# Altium integrated library WE-PD SMD Shielded Power Inductor.IntLib: 278 symbols (part 3 of 3)
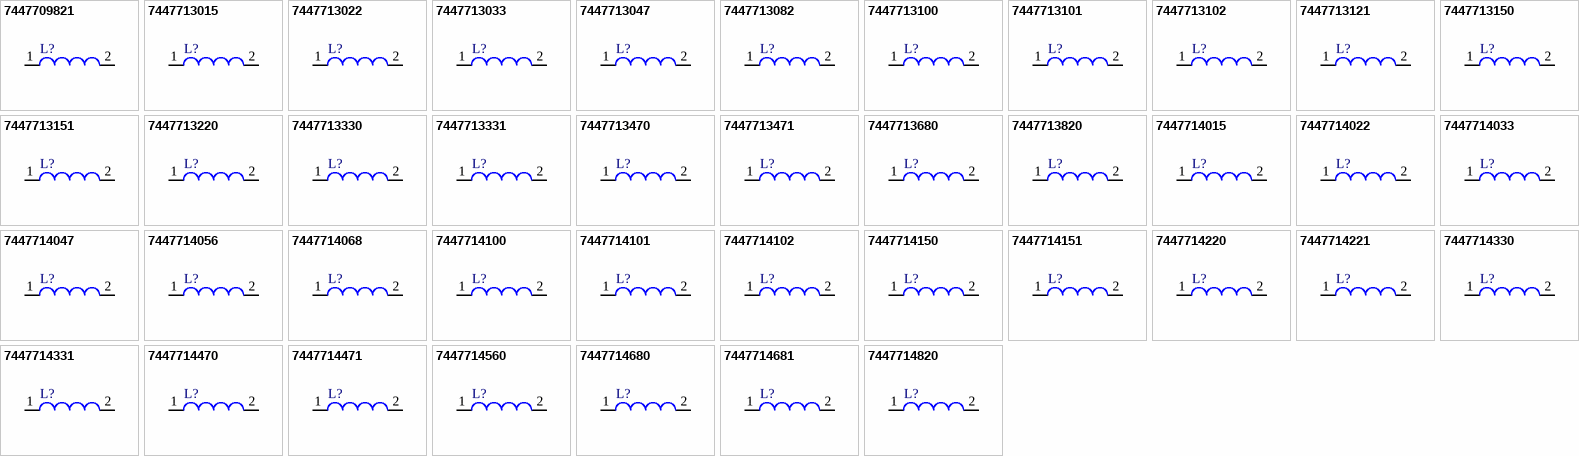
[diagram p8: symbols 7447709821 to 7447714820]

## 7447714560
designator L?
SMD-Shielded Power Inductor WE-PD, L=56.0 µH; PartNumber: 7447714560; Inductance: 56.0 µH; PackageReference: WE-PD 1050; ComponentLink1Description: Manufacturer URL; ComponentLink1URL: http://www.we-online.com; ComponentLink2Description: Datasheet; ComponentLink2URL: http://www.we-online.de/katalog/media/pdf/7447714560.pdf
footprint WE-PD 1050 (SMD Inductor, 2-Leads, Body 10,0x10,0mm)
pins: 1, 2

## 7447714680
designator L?
SMD-Shielded Power Inductor WE-PD, L=68.0 µH; PartNumber: 7447714680; Inductance: 68.0 µH; PackageReference: WE-PD 1050; ComponentLink1Description: Manufacturer URL; ComponentLink1URL: http://www.we-online.com; ComponentLink2Description: Datasheet; ComponentLink2URL: http://www.we-online.de/katalog/media/pdf/7447714680.pdf
footprint WE-PD 1050 (SMD Inductor, 2-Leads, Body 10,0x10,0mm)
pins: 1, 2

## 7447714681
designator L?
SMD-Shielded Power Inductor WE-PD, L=680 µH; PartNumber: 7447714681; Inductance: 680 µH; PackageReference: WE-PD 1050; ComponentLink1Description: Manufacturer URL; ComponentLink1URL: http://www.we-online.com; ComponentLink2Description: Datasheet; ComponentLink2URL: http://www.we-online.de/katalog/media/pdf/7447714681.pdf
footprint WE-PD 1050 (SMD Inductor, 2-Leads, Body 10,0x10,0mm)
pins: 1, 2

## 7447714820
designator L?
SMD-Shielded Power Inductor WE-PD, L=82.0 µH; PartNumber: 7447714820; Inductance: 82.0 µH; PackageReference: WE-PD 1050; ComponentLink1Description: Manufacturer URL; ComponentLink1URL: http://www.we-online.com; ComponentLink2Description: Datasheet; ComponentLink2URL: http://www.we-online.de/katalog/media/pdf/7447714820.pdf
footprint WE-PD 1050 (SMD Inductor, 2-Leads, Body 10,0x10,0mm)
pins: 1, 2

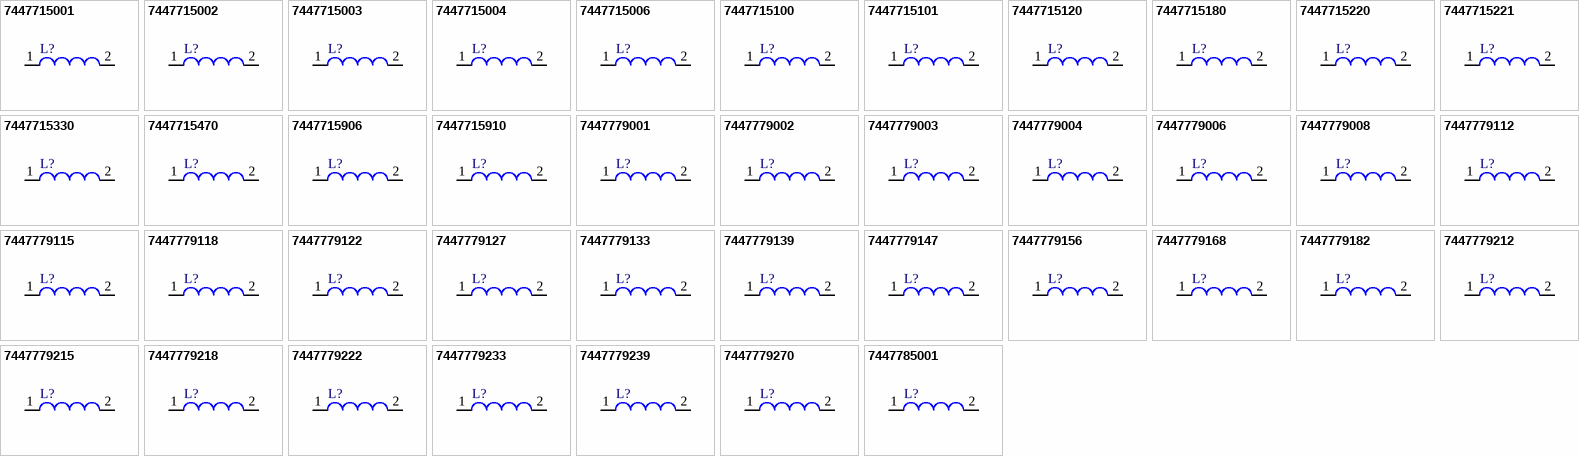
[diagram p5: symbols 7447715001 to 7447785001]

## 7447715001
designator L?
SMD-Shielded Power Inductor WE-PD, L = 1.80 µH; PartNumber: 7447715001; Inductance: 1.80 µH; DatasheetVersion: ver 1, Nov-2008; PackageReference: WE-PD-LS; PackageDescription: SMD Inductor, 2-Leads, Body 12.0 x 12.0 mm; ComponentLink1Description: Manufacturer URL; ComponentLink1URL: http://www.we-online.com; ComponentLink2Description: Datasheet; ComponentLink2URL: http://www.we-online.de/katalog/media/pdf/7447715001.pdf
footprint WE-PD-LS (SMD Inductor, 2-Leads, Body 12.0x12.0x4.5 mm)
pins: 1, 2

## 7447715002
designator L?
SMD-Shielded Power Inductor WE-PD, L = 2.50 µH; PartNumber: 7447715002; Inductance: 2.50 µH; DatasheetVersion: ver 1, Nov-2008; PackageReference: WE-PD-LS; PackageDescription: SMD Inductor, 2-Leads, Body 12.0 x 12.0 mm; ComponentLink1Description: Manufacturer URL; ComponentLink1URL: http://www.we-online.com; ComponentLink2Description: Datasheet; ComponentLink2URL: http://www.we-online.de/katalog/media/pdf/7447715002.pdf
footprint WE-PD-LS (SMD Inductor, 2-Leads, Body 12.0x12.0x4.5 mm)
pins: 1, 2

## 7447715003
designator L?
SMD-Shielded Power Inductor WE-PD, L = 3.30 µH; PartNumber: 7447715003; Inductance: 3.30 µH; DatasheetVersion: ver 1, Nov-2008; PackageReference: WE-PD-LS; PackageDescription: SMD Inductor, 2-Leads, Body 12.0 x 12.0 mm; ComponentLink1Description: Manufacturer URL; ComponentLink1URL: http://www.we-online.com; ComponentLink2Description: Datasheet; ComponentLink2URL: http://www.we-online.de/katalog/media/pdf/7447715003.pdf
footprint WE-PD-LS (SMD Inductor, 2-Leads, Body 12.0x12.0x4.5 mm)
pins: 1, 2

## 7447715004
designator L?
SMD-Shielded Power Inductor WE-PD, L = 4.70 µH; PartNumber: 7447715004; Inductance: 4.70 µH; DatasheetVersion: ver 1, Nov-2008; PackageReference: WE-PD-LS; PackageDescription: SMD Inductor, 2-Leads, Body 12.0 x 12.0 mm; ComponentLink1Description: Manufacturer URL; ComponentLink1URL: http://www.we-online.com; ComponentLink2Description: Datasheet; ComponentLink2URL: http://www.we-online.de/katalog/media/pdf/7447715004.pdf
footprint WE-PD-LS (SMD Inductor, 2-Leads, Body 12.0x12.0x4.5 mm)
pins: 1, 2

## 7447715006
designator L?
SMD-Shielded Power Inductor WE-PD, L = 6.80 µH; PartNumber: 7447715006; Inductance: 6.80 µH; DatasheetVersion: ver 1, Nov-2008; PackageReference: WE-PD-LS; PackageDescription: SMD Inductor, 2-Leads, Body 12.0 x 12.0 mm; ComponentLink1Description: Manufacturer URL; ComponentLink1URL: http://www.we-online.com; ComponentLink2Description: Datasheet; ComponentLink2URL: http://www.we-online.de/katalog/media/pdf/7447715006.pdf
footprint WE-PD-LS (SMD Inductor, 2-Leads, Body 12.0x12.0x4.5 mm)
pins: 1, 2

## 7447715100
designator L?
SMD-Shielded Power Inductor WE-PD, L = 10.0 µH; PartNumber: 7447715100; Inductance: 10.0 µH; DatasheetVersion: ver 1, Nov-2008; PackageReference: WE-PD-LS; PackageDescription: SMD Inductor, 2-Leads, Body 12.0 x 12.0 mm; ComponentLink1Description: Manufacturer URL; ComponentLink1URL: http://www.we-online.com; ComponentLink2Description: Datasheet; ComponentLink2URL: http://www.we-online.de/katalog/media/pdf/7447715100.pdf
footprint WE-PD-LS (SMD Inductor, 2-Leads, Body 12.0x12.0x4.5 mm)
pins: 1, 2

## 7447715101
designator L?
SMD-Shielded Power Inductor WE-PD, L = 100 µH; PartNumber: 7447715101; Inductance: 100 µH; DatasheetVersion: ver 1, Nov-2008; PackageReference: WE-PD-LS; PackageDescription: SMD Inductor, 2-Leads, Body 12.0 x 12.0 mm; ComponentLink1Description: Manufacturer URL; ComponentLink1URL: http://www.we-online.com; ComponentLink2Description: Datasheet; ComponentLink2URL: http://www.we-online.de/katalog/media/pdf/7447715101.pdf
footprint WE-PD-LS (SMD Inductor, 2-Leads, Body 12.0x12.0x4.5 mm)
pins: 1, 2

## 7447715120
designator L?
SMD-Shielded Power Inductor WE-PD, L = 12.0 µH; PartNumber: 7447715120; Inductance: 12.0 µH; DatasheetVersion: ver 1, Nov-2008; PackageReference: WE-PD-LS; PackageDescription: SMD Inductor, 2-Leads, Body 12.0 x 12.0 mm; ComponentLink1Description: Manufacturer URL; ComponentLink1URL: http://www.we-online.com; ComponentLink2Description: Datasheet; ComponentLink2URL: http://www.we-online.de/katalog/media/pdf/7447715120.pdf
footprint WE-PD-LS (SMD Inductor, 2-Leads, Body 12.0x12.0x4.5 mm)
pins: 1, 2

## 7447715180
designator L?
SMD-Shielded Power Inductor WE-PD, L = 18.0 µH; PartNumber: 7447715180; Inductance: 18.0 µH; DatasheetVersion: ver 1, Nov-2008; PackageReference: WE-PD-LS; PackageDescription: SMD Inductor, 2-Leads, Body 12.0 x 12.0 mm; ComponentLink1Description: Manufacturer URL; ComponentLink1URL: http://www.we-online.com; ComponentLink2Description: Datasheet; ComponentLink2URL: http://www.we-online.de/katalog/media/pdf/7447715180.pdf
footprint WE-PD-LS (SMD Inductor, 2-Leads, Body 12.0x12.0x4.5 mm)
pins: 1, 2

## 7447715220
designator L?
SMD-Shielded Power Inductor WE-PD, L = 22.0 µH; PartNumber: 7447715220; Inductance: 22.0 µH; DatasheetVersion: ver 1, Nov-2008; PackageReference: WE-PD-LS; PackageDescription: SMD Inductor, 2-Leads, Body 12.0 x 12.0 mm; ComponentLink1Description: Manufacturer URL; ComponentLink1URL: http://www.we-online.com; ComponentLink2Description: Datasheet; ComponentLink2URL: http://www.we-online.de/katalog/media/pdf/7447715220.pdf
footprint WE-PD-LS (SMD Inductor, 2-Leads, Body 12.0x12.0x4.5 mm)
pins: 1, 2

## 7447715221
designator L?
SMD-Shielded Power Inductor WE-PD, L = 220 µH; PartNumber: 7447715221; Inductance: 220 µH; DatasheetVersion: ver 1, Nov-2008; PackageReference: WE-PD-LS; PackageDescription: SMD Inductor, 2-Leads, Body 12.0 x 12.0 mm; ComponentLink1Description: Manufacturer URL; ComponentLink1URL: http://www.we-online.com; ComponentLink2Description: Datasheet; ComponentLink2URL: http://www.we-online.de/katalog/media/pdf/7447715221.pdf
footprint WE-PD-LS (SMD Inductor, 2-Leads, Body 12.0x12.0x4.5 mm)
pins: 1, 2

## 7447715330
designator L?
SMD-Shielded Power Inductor WE-PD, L = 33.0 µH; PartNumber: 7447715330; Inductance: 33.0 µH; DatasheetVersion: ver 1, Nov-2008; PackageReference: WE-PD-LS; PackageDescription: SMD Inductor, 2-Leads, Body 12.0 x 12.0 mm; ComponentLink1Description: Manufacturer URL; ComponentLink1URL: http://www.we-online.com; ComponentLink2Description: Datasheet; ComponentLink2URL: http://www.we-online.de/katalog/media/pdf/7447715330.pdf
footprint WE-PD-LS (SMD Inductor, 2-Leads, Body 12.0x12.0x4.5 mm)
pins: 1, 2

## 7447715470
designator L?
SMD-Shielded Power Inductor WE-PD, L = 47.0 µH; PartNumber: 7447715470; Inductance: 47.0 µH; DatasheetVersion: ver 1, Nov-2008; PackageReference: WE-PD-LS; PackageDescription: SMD Inductor, 2-Leads, Body 12.0 x 12.0 mm; ComponentLink1Description: Manufacturer URL; ComponentLink1URL: http://www.we-online.com; ComponentLink2Description: Datasheet; ComponentLink2URL: http://www.we-online.de/katalog/media/pdf/7447715470.pdf
footprint WE-PD-LS (SMD Inductor, 2-Leads, Body 12.0x12.0x4.5 mm)
pins: 1, 2

## 7447715906
designator L?
SMD-Shielded Power Inductor WE-PD, L = 0.60 µH; PartNumber: 7447715906; Inductance: 0.60 µH; DatasheetVersion: ver 1, Apr-2009; PackageReference: WE-PD-LS; PackageDescription: SMD Inductor, 2-Leads, Body 12.0 x 12.0 mm; ComponentLink1Description: Manufacturer URL; ComponentLink1URL: http://www.we-online.com; ComponentLink2Description: Datasheet; ComponentLink2URL: http://www.we-online.de/katalog/media/pdf/7447715906.pdf
footprint WE-PD-LS (SMD Inductor, 2-Leads, Body 12.0x12.0x4.5 mm)
pins: 1, 2

## 7447715910
designator L?
SMD-Shielded Power Inductor WE-PD, L = 1.00 µH; PartNumber: 7447715910; Inductance: 1.00 µH; DatasheetVersion: ver 1, Apr-2009; PackageReference: WE-PD-LS; PackageDescription: SMD Inductor, 2-Leads, Body 12.0 x 12.0 mm; ComponentLink1Description: Manufacturer URL; ComponentLink1URL: http://www.we-online.com; ComponentLink2Description: Datasheet; ComponentLink2URL: http://www.we-online.de/katalog/media/pdf/7447715910.pdf
footprint WE-PD-LS (SMD Inductor, 2-Leads, Body 12.0x12.0x4.5 mm)
pins: 1, 2

## 7447779001
designator L?
SMD-Shielded Power Inductor WE-PD, L = 1.00 µH; PartNumber: 7447779001; Inductance: 1.00 µH; DatasheetVersion: ver 10, Jan-2008; PackageReference: WE-PD-M-PB; PackageDescription: SMD Inductor, 2-Leads, Body 7.3 x 7.3 mm; ComponentLink1Description: Manufacturer URL; ComponentLink1URL: http://www.we-online.com; ComponentLink2Description: Datasheet; ComponentLink2URL: http://www.we-online.de/katalog/media/pdf/7447779001.pdf
footprint WE-PD-M-PB (SMD Inductor, 2-Leads, Body 7.3x7.3x4.5 mm)
pins: 1, 2

## 7447779002
designator L?
SMD-Shielded Power Inductor WE-PD, L=2.20 µH; PartNumber: 7447779002; Inductance: 2.20 µH; PackageReference: WE-PD-M-PB; PackageDescription: SMD Inductor, 2-Leads, Body 7.3 x 7.3 mm; ComponentLink1Description: Manufacturer URL; ComponentLink1URL: http://www.we-online.com; ComponentLink2Description: Datasheet; ComponentLink2URL: http://www.we-online.de/katalog/media/pdf/7447779002.pdf
footprint WE-PD-M-PB (SMD Inductor, 2-Leads, Body 7.3x7.3x4.5 mm)
pins: 1, 2

## 7447779003
designator L?
SMD-Shielded Power Inductor WE-PD, L=3.30 µH; PartNumber: 7447779003; Inductance: 3.30 µH; PackageReference: WE-PD-M-PB; PackageDescription: SMD Inductor, 2-Leads, Body 7.3 x 7.3 mm; ComponentLink1Description: Manufacturer URL; ComponentLink1URL: http://www.we-online.com; ComponentLink2Description: Datasheet; ComponentLink2URL: http://www.we-online.de/katalog/media/pdf/7447779003.pdf
footprint WE-PD-M-PB (SMD Inductor, 2-Leads, Body 7.3x7.3x4.5 mm)
pins: 1, 2

## 7447779004
designator L?
SMD-Shielded Power Inductor WE-PD, L=4.70 µH; PartNumber: 7447779004; Inductance: 4.70 µH; PackageReference: WE-PD-M-PB; PackageDescription: SMD Inductor, 2-Leads, Body 7.3 x 7.3 mm; ComponentLink1Description: Manufacturer URL; ComponentLink1URL: http://www.we-online.com; ComponentLink2Description: Datasheet; ComponentLink2URL: http://www.we-online.de/katalog/media/pdf/7447779004.pdf
footprint WE-PD-M-PB (SMD Inductor, 2-Leads, Body 7.3x7.3x4.5 mm)
pins: 1, 2

## 7447779006
designator L?
SMD-Shielded Power Inductor WE-PD, L=6.80 µH; PartNumber: 7447779006; Inductance: 6.80 µH; PackageReference: WE-PD-M-PB; PackageDescription: SMD Inductor, 2-Leads, Body 7.3 x 7.3 mm; ComponentLink1Description: Manufacturer URL; ComponentLink1URL: http://www.we-online.com; ComponentLink2Description: Datasheet; ComponentLink2URL: http://www.we-online.de/katalog/media/pdf/7447779006.pdf
footprint WE-PD-M-PB (SMD Inductor, 2-Leads, Body 7.3x7.3x4.5 mm)
pins: 1, 2

## 7447779008
designator L?
SMD-Shielded Power Inductor WE-PD, L=8.20 µH; PartNumber: 7447779008; Inductance: 8.20 µH; PackageReference: WE-PD-M-PB; PackageDescription: SMD Inductor, 2-Leads, Body 7.3 x 7.3 mm; ComponentLink1Description: Manufacturer URL; ComponentLink1URL: http://www.we-online.com; ComponentLink2Description: Datasheet; ComponentLink2URL: http://www.we-online.de/katalog/media/pdf/7447779008.pdf
footprint WE-PD-M-PB (SMD Inductor, 2-Leads, Body 7.3x7.3x4.5 mm)
pins: 1, 2

## 7447779112
designator L?
SMD-Shielded Power Inductor WE-PD, L = 12.0 µH; PartNumber: 7447779112; Inductance: 12.0 µH; DatasheetVersion: ver 10, Jan-2008; PackageReference: WE-PD-M-PB; PackageDescription: SMD Inductor, 2-Leads, Body 7.3 x 7.3 mm; ComponentLink1Description: Manufacturer URL; ComponentLink1URL: http://www.we-online.com; ComponentLink2Description: Datasheet; ComponentLink2URL: http://www.we-online.de/katalog/media/pdf/7447779112.pdf
footprint WE-PD-M-PB (SMD Inductor, 2-Leads, Body 7.3x7.3x4.5 mm)
pins: 1, 2

## 7447779115
designator L?
SMD-Shielded Power Inductor WE-PD, L=15 µH; PartNumber: 7447779115; Inductance: 15 µH; PackageReference: WE-PD-M-PB; PackageDescription: SMD Inductor, 2-Leads, Body 7.3 x 7.3 mm; ComponentLink1Description: Manufacturer URL; ComponentLink1URL: http://www.we-online.com; ComponentLink2Description: Datasheet; ComponentLink2URL: http://www.we-online.de/katalog/media/pdf/7447779115.pdf
footprint WE-PD-M-PB (SMD Inductor, 2-Leads, Body 7.3x7.3x4.5 mm)
pins: 1, 2

## 7447779118
designator L?
SMD-Shielded Power Inductor WE-PD, L=18 µH; PartNumber: 7447779118; Inductance: 18 µH; PackageReference: WE-PD-M-PB; PackageDescription: SMD Inductor, 2-Leads, Body 7.3 x 7.3 mm; ComponentLink1Description: Manufacturer URL; ComponentLink1URL: http://www.we-online.com; ComponentLink2Description: Datasheet; ComponentLink2URL: http://www.we-online.de/katalog/media/pdf/7447779118.pdf
footprint WE-PD-M-PB (SMD Inductor, 2-Leads, Body 7.3x7.3x4.5 mm)
pins: 1, 2

## 7447779122
designator L?
SMD-Shielded Power Inductor WE-PD, L = 22.0 µH; PartNumber: 7447779122; Inductance: 22.0 µH; DatasheetVersion: ver 10, Jan-2008; PackageReference: WE-PD-M-PB; PackageDescription: SMD Inductor, 2-Leads, Body 7.3 x 7.3 mm; ComponentLink1Description: Manufacturer URL; ComponentLink1URL: http://www.we-online.com; ComponentLink2Description: Datasheet; ComponentLink2URL: http://www.we-online.de/katalog/media/pdf/7447779122.pdf
footprint WE-PD-M-PB (SMD Inductor, 2-Leads, Body 7.3x7.3x4.5 mm)
pins: 1, 2

## 7447779127
designator L?
SMD-Shielded Power Inductor WE-PD, L=27 µH; PartNumber: 7447779127; Inductance: 27 µH; PackageReference: WE-PD-M-PB; PackageDescription: SMD Inductor, 2-Leads, Body 7.3 x 7.3 mm; ComponentLink1Description: Manufacturer URL; ComponentLink1URL: http://www.we-online.com; ComponentLink2Description: Datasheet; ComponentLink2URL: http://www.we-online.de/katalog/media/pdf/7447779127.pdf
footprint WE-PD-M-PB (SMD Inductor, 2-Leads, Body 7.3x7.3x4.5 mm)
pins: 1, 2

## 7447779133
designator L?
SMD-Shielded Power Inductor WE-PD, L=33 µH; PartNumber: 7447779133; Inductance: 33 µH; PackageReference: WE-PD-M-PB; PackageDescription: SMD Inductor, 2-Leads, Body 7.3 x 7.3 mm; ComponentLink1Description: Manufacturer URL; ComponentLink1URL: http://www.we-online.com; ComponentLink2Description: Datasheet; ComponentLink2URL: http://www.we-online.de/katalog/media/pdf/7447779133.pdf
footprint WE-PD-M-PB (SMD Inductor, 2-Leads, Body 7.3x7.3x4.5 mm)
pins: 1, 2

## 7447779139
designator L?
SMD-Shielded Power Inductor WE-PD, L = 39.0 µH; PartNumber: 7447779139; Inductance: 39.0 µH; DatasheetVersion: ver 10, Jan-2008; PackageReference: WE-PD-M-PB; PackageDescription: SMD Inductor, 2-Leads, Body 7.3 x 7.3 mm; ComponentLink1Description: Manufacturer URL; ComponentLink1URL: http://www.we-online.com; ComponentLink2Description: Datasheet; ComponentLink2URL: http://www.we-online.de/katalog/media/pdf/7447779139.pdf
footprint WE-PD-M-PB (SMD Inductor, 2-Leads, Body 7.3x7.3x4.5 mm)
pins: 1, 2

## 7447779147
designator L?
SMD-Shielded Power Inductor WE-PD, L = 47.0 µH; PartNumber: 7447779147; Inductance: 47.0 µH; DatasheetVersion: ver 10, Jan-2008; PackageReference: WE-PD-M-PB; PackageDescription: SMD Inductor, 2-Leads, Body 7.3 x 7.3 mm; ComponentLink1Description: Manufacturer URL; ComponentLink1URL: http://www.we-online.com; ComponentLink2Description: Datasheet; ComponentLink2URL: http://www.we-online.de/katalog/media/pdf/7447779147.pdf
footprint WE-PD-M-PB (SMD Inductor, 2-Leads, Body 7.3x7.3x4.5 mm)
pins: 1, 2

## 7447779156
designator L?
SMD-Shielded Power Inductor WE-PD, L = 56.0 µH; PartNumber: 7447779156; Inductance: 56.0 µH; DatasheetVersion: ver 10, Jan-2008; PackageReference: WE-PD-M-PB; PackageDescription: SMD Inductor, 2-Leads, Body 7.3 x 7.3 mm; ComponentLink1Description: Manufacturer URL; ComponentLink1URL: http://www.we-online.com; ComponentLink2Description: Datasheet; ComponentLink2URL: http://www.we-online.de/katalog/media/pdf/7447779156.pdf
footprint WE-PD-M-PB (SMD Inductor, 2-Leads, Body 7.3x7.3x4.5 mm)
pins: 1, 2

## 7447779168
designator L?
SMD-Shielded Power Inductor WE-PD, L = 68.0 µH; PartNumber: 7447779168; Inductance: 68.0 µH; DatasheetVersion: ver 10, Jan-2008; PackageReference: WE-PD-M-PB; PackageDescription: SMD Inductor, 2-Leads, Body 7.3 x 7.3 mm; ComponentLink1Description: Manufacturer URL; ComponentLink1URL: http://www.we-online.com; ComponentLink2Description: Datasheet; ComponentLink2URL: http://www.we-online.de/katalog/media/pdf/7447779168.pdf
footprint WE-PD-M-PB (SMD Inductor, 2-Leads, Body 7.3x7.3x4.5 mm)
pins: 1, 2

## 7447779182
designator L?
SMD-Shielded Power Inductor WE-PD, L = 82.0 µH; PartNumber: 7447779182; Inductance: 82.0 µH; DatasheetVersion: ver 10, Jan-2008; PackageReference: WE-PD-M-PB; PackageDescription: SMD Inductor, 2-Leads, Body 7.3 x 7.3 mm; ComponentLink1Description: Manufacturer URL; ComponentLink1URL: http://www.we-online.com; ComponentLink2Description: Datasheet; ComponentLink2URL: http://www.we-online.de/katalog/media/pdf/7447779182.pdf
footprint WE-PD-M-PB (SMD Inductor, 2-Leads, Body 7.3x7.3x4.5 mm)
pins: 1, 2

## 7447779212
designator L?
SMD-Shielded Power Inductor WE-PD, L = 120 µH; PartNumber: 7447779212; Inductance: 120 µH; DatasheetVersion: ver 10, Jan-2008; PackageReference: WE-PD-M-PB; PackageDescription: SMD Inductor, 2-Leads, Body 7.3 x 7.3 mm; ComponentLink1Description: Manufacturer URL; ComponentLink1URL: http://www.we-online.com; ComponentLink2Description: Datasheet; ComponentLink2URL: http://www.we-online.de/katalog/media/pdf/7447779212.pdf
footprint WE-PD-M-PB (SMD Inductor, 2-Leads, Body 7.3x7.3x4.5 mm)
pins: 1, 2

## 7447779215
designator L?
SMD-Shielded Power Inductor WE-PD, L=150 µH; PartNumber: 7447779215; Inductance: 150 µH; PackageReference: WE-PD-M-PB; PackageDescription: SMD Inductor, 2-Leads, Body 7.3 x 7.3 mm; ComponentLink1Description: Manufacturer URL; ComponentLink1URL: http://www.we-online.com; ComponentLink2Description: Datasheet; ComponentLink2URL: http://www.we-online.de/katalog/media/pdf/7447779215.pdf
footprint WE-PD-M-PB (SMD Inductor, 2-Leads, Body 7.3x7.3x4.5 mm)
pins: 1, 2

## 7447779218
designator L?
SMD-Shielded Power Inductor WE-PD, L=180 µH; PartNumber: 7447779218; Inductance: 180 µH; PackageReference: WE-PD-M-PB; PackageDescription: SMD Inductor, 2-Leads, Body 7.3 x 7.3 mm; ComponentLink1Description: Manufacturer URL; ComponentLink1URL: http://www.we-online.com; ComponentLink2Description: Datasheet; ComponentLink2URL: http://www.we-online.de/katalog/media/pdf/7447779218.pdf
footprint WE-PD-M-PB (SMD Inductor, 2-Leads, Body 7.3x7.3x4.5 mm)
pins: 1, 2

## 7447779222
designator L?
SMD-Shielded Power Inductor WE-PD, L = 220 µH; PartNumber: 7447779222; Inductance: 220 µH; DatasheetVersion: ver 10, Jan-2008; PackageReference: WE-PD-M-PB; PackageDescription: SMD Inductor, 2-Leads, Body 7.3 x 7.3 mm; ComponentLink1Description: Manufacturer URL; ComponentLink1URL: http://www.we-online.com; ComponentLink2Description: Datasheet; ComponentLink2URL: http://www.we-online.de/katalog/media/pdf/7447779222.pdf
footprint WE-PD-M-PB (SMD Inductor, 2-Leads, Body 7.3x7.3x4.5 mm)
pins: 1, 2

## 7447779233
designator L?
SMD-Shielded Power Inductor WE-PD, L = 330 µH; PartNumber: 7447779233; Inductance: 330 µH; DatasheetVersion: ver 10, Jan-2008; PackageReference: WE-PD-M-PB; PackageDescription: SMD Inductor, 2-Leads, Body 7.3 x 7.3 mm; ComponentLink1Description: Manufacturer URL; ComponentLink1URL: http://www.we-online.com; ComponentLink2Description: Datasheet; ComponentLink2URL: http://www.we-online.de/katalog/media/pdf/7447779233.pdf
footprint WE-PD-M-PB (SMD Inductor, 2-Leads, Body 7.3x7.3x4.5 mm)
pins: 1, 2

## 7447779239
designator L?
SMD-Shielded Power Inductor WE-PD, L=390 µH; PartNumber: 7447779239; Inductance: 390 µH; PackageReference: WE-PD-M-PB; PackageDescription: SMD Inductor, 2-Leads, Body 7.3 x 7.3 mm; ComponentLink1Description: Manufacturer URL; ComponentLink1URL: http://www.we-online.com; ComponentLink2Description: Datasheet; ComponentLink2URL: http://www.we-online.de/katalog/media/pdf/7447779239.pdf
footprint WE-PD-M-PB (SMD Inductor, 2-Leads, Body 7.3x7.3x4.5 mm)
pins: 1, 2

## 7447779270
designator L?
SMD-Shielded Power Inductor WE-PD, L = 270 µH; PartNumber: 7447779270; Inductance: 270 µH; DatasheetVersion: ver 10, Jan-2008; PackageReference: WE-PD-M-PB; PackageDescription: SMD Inductor, 2-Leads, Body 7.3 x 7.3 mm; ComponentLink1Description: Manufacturer URL; ComponentLink1URL: http://www.we-online.com; ComponentLink2Description: Datasheet; ComponentLink2URL: http://www.we-online.de/katalog/media/pdf/7447779270.pdf
footprint WE-PD-M-PB (SMD Inductor, 2-Leads, Body 7.3x7.3x4.5 mm)
pins: 1, 2

## 7447785001
designator L?
SMD-Shielded Power Inductor WE-PD, L = 1.00 µH; PartNumber: 7447785001; Inductance: 1.00 µH; DatasheetVersion: ver 2, Oct-2004; PackageReference: WE-PD-XS-PB; PackageDescription: SMD Inductor, 2-Leads, Body 5.9 x 6.2 mm; ComponentLink1Description: Manufacturer URL; ComponentLink1URL: http://www.we-online.com; ComponentLink2Description: Datasheet; ComponentLink2URL: http://www.we-online.de/katalog/media/pdf/7447785001.pdf
footprint WE-PD-XS-PB (SMD Inductor, 2-Leads, Body 5.9x6.2x3.3 mm)
pins: 1, 2

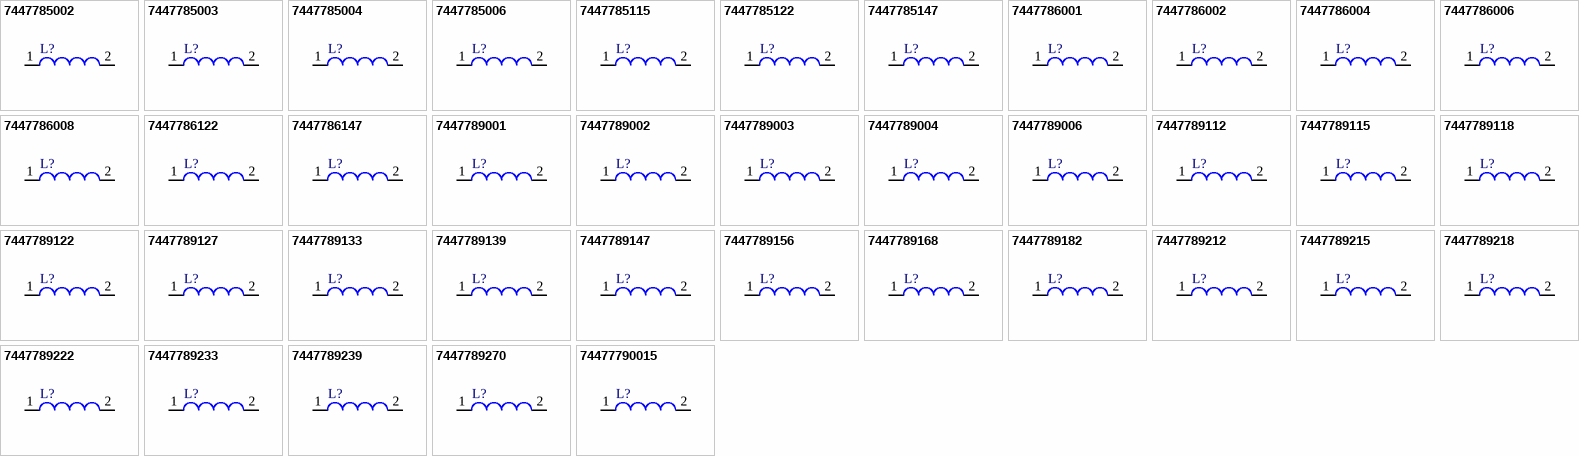
[diagram p6: symbols 7447785002 to 74477790015]

## 7447785002
designator L?
SMD-Shielded Power Inductor WE-PD, L = 2.20 µH; PartNumber: 7447785002; Inductance: 2.20 µH; DatasheetVersion: ver 2, Oct-2004; PackageReference: WE-PD-XS-PB; PackageDescription: SMD Inductor, 2-Leads, Body 5.9 x 6.2 mm; ComponentLink1Description: Manufacturer URL; ComponentLink1URL: http://www.we-online.com; ComponentLink2Description: Datasheet; ComponentLink2URL: http://www.we-online.de/katalog/media/pdf/7447785002.pdf
footprint WE-PD-XS-PB (SMD Inductor, 2-Leads, Body 5.9x6.2x3.3 mm)
pins: 1, 2

## 7447785003
designator L?
SMD-Shielded Power Inductor WE-PD, L = 3.30 µH; PartNumber: 7447785003; Inductance: 3.30 µH; DatasheetVersion: ver 1, Nov-2005; PackageReference: WE-PD-XS-PB; PackageDescription: SMD Inductor, 2-Leads, Body 5.9 x 6.2 mm; ComponentLink1Description: Manufacturer URL; ComponentLink1URL: http://www.we-online.com; ComponentLink2Description: Datasheet; ComponentLink2URL: http://www.we-online.de/katalog/media/pdf/7447785003.pdf
footprint WE-PD-XS-PB (SMD Inductor, 2-Leads, Body 5.9x6.2x3.3 mm)
pins: 1, 2

## 7447785004
designator L?
SMD-Shielded Power Inductor WE-PD, L = 4.70 µH; PartNumber: 7447785004; Inductance: 4.70 µH; DatasheetVersion: ver 2, Oct-2004; PackageReference: WE-PD-XS-PB; PackageDescription: SMD Inductor, 2-Leads, Body 5.9 x 6.2 mm; ComponentLink1Description: Manufacturer URL; ComponentLink1URL: http://www.we-online.com; ComponentLink2Description: Datasheet; ComponentLink2URL: http://www.we-online.de/katalog/media/pdf/7447785004.pdf
footprint WE-PD-XS-PB (SMD Inductor, 2-Leads, Body 5.9x6.2x3.3 mm)
pins: 1, 2

## 7447785006
designator L?
SMD-Shielded Power Inductor WE-PD, L = 6.80 µH; PartNumber: 7447785006; Inductance: 6.80 µH; DatasheetVersion: ver 4, Sep-2005; PackageReference: WE-PD-XS-PB; PackageDescription: SMD Inductor, 2-Leads, Body 5.9 x 6.2 mm; ComponentLink1Description: Manufacturer URL; ComponentLink1URL: http://www.we-online.com; ComponentLink2Description: Datasheet; ComponentLink2URL: http://www.we-online.de/katalog/media/pdf/7447785006.pdf
footprint WE-PD-XS-PB (SMD Inductor, 2-Leads, Body 5.9x6.2x3.3 mm)
pins: 1, 2

## 7447785115
designator L?
SMD-Shielded Power Inductor WE-PD, L = 15.0 µH; PartNumber: 7447785115; Inductance: 15.0 µH; DatasheetVersion: ver 1, Sep-2005; PackageReference: WE-PD-XS-PB; PackageDescription: SMD Inductor, 2-Leads, Body 5.9 x 6.2 mm; ComponentLink1Description: Manufacturer URL; ComponentLink1URL: http://www.we-online.com; ComponentLink2Description: Datasheet; ComponentLink2URL: http://www.we-online.de/katalog/media/pdf/7447785115.pdf
footprint WE-PD-XS-PB (SMD Inductor, 2-Leads, Body 5.9x6.2x3.3 mm)
pins: 1, 2

## 7447785122
designator L?
SMD-Shielded Power Inductor WE-PD, L = 22.0 µH; PartNumber: 7447785122; Inductance: 22.0 µH; DatasheetVersion: ver 2, Oct-2004; PackageReference: WE-PD-XS-PB; PackageDescription: SMD Inductor, 2-Leads, Body 5.9 x 6.2 mm; ComponentLink1Description: Manufacturer URL; ComponentLink1URL: http://www.we-online.com; ComponentLink2Description: Datasheet; ComponentLink2URL: http://www.we-online.de/katalog/media/pdf/7447785122.pdf
footprint WE-PD-XS-PB (SMD Inductor, 2-Leads, Body 5.9x6.2x3.3 mm)
pins: 1, 2

## 7447785147
designator L?
SMD-Shielded Power Inductor WE-PD, L = 47.0 µH; PartNumber: 7447785147; Inductance: 47.0 µH; DatasheetVersion: ver 2, Oct-2004; PackageReference: WE-PD-XS-PB; PackageDescription: SMD Inductor, 2-Leads, Body 5.9 x 6.2 mm; ComponentLink1Description: Manufacturer URL; ComponentLink1URL: http://www.we-online.com; ComponentLink2Description: Datasheet; ComponentLink2URL: http://www.we-online.de/katalog/media/pdf/7447785147.pdf
footprint WE-PD-XS-PB (SMD Inductor, 2-Leads, Body 5.9x6.2x3.3 mm)
pins: 1, 2

## 7447786001
designator L?
SMD-Shielded Power Inductor WE-PD, L = 1.00 µH; PartNumber: 7447786001; Inductance: 1.00 µH; DatasheetVersion: ver 1, Sep-2008; PackageReference: WE-PD-XSH-PB; PackageDescription: SMD Inductor, 2-Leads, Body 5.9 x 6.2 mm; ComponentLink1Description: Manufacturer URL; ComponentLink1URL: http://www.we-online.com; ComponentLink2Description: Datasheet; ComponentLink2URL: http://www.we-online.de/katalog/media/pdf/7447786001.pdf
footprint WE-PD-XSH-PB (SMD Inductor, 2-Leads, Body 5.9x6.2x5.1 mm)
pins: 1, 2

## 7447786002
designator L?
SMD-Shielded Power Inductor WE-PD, L = 2.20 µH; PartNumber: 7447786002; Inductance: 2.20 µH; DatasheetVersion: ver 1, Sep-2008; PackageReference: WE-PD-XSH-PB; PackageDescription: SMD Inductor, 2-Leads, Body 5.9 x 6.2 mm; ComponentLink1Description: Manufacturer URL; ComponentLink1URL: http://www.we-online.com; ComponentLink2Description: Datasheet; ComponentLink2URL: http://www.we-online.de/katalog/media/pdf/7447786002.pdf
footprint WE-PD-XSH-PB (SMD Inductor, 2-Leads, Body 5.9x6.2x5.1 mm)
pins: 1, 2

## 7447786004
designator L?
SMD-Shielded Power Inductor WE-PD, L = 4.70 µH; PartNumber: 7447786004; Inductance: 4.70 µH; DatasheetVersion: ver 1, Sep-2008; PackageReference: WE-PD-XSH-PB; PackageDescription: SMD Inductor, 2-Leads, Body 5.9 x 6.2 mm; ComponentLink1Description: Manufacturer URL; ComponentLink1URL: http://www.we-online.com; ComponentLink2Description: Datasheet; ComponentLink2URL: http://www.we-online.de/katalog/media/pdf/7447786004.pdf
footprint WE-PD-XSH-PB (SMD Inductor, 2-Leads, Body 5.9x6.2x5.1 mm)
pins: 1, 2

## 7447786006
designator L?
SMD-Shielded Power Inductor WE-PD, L = 6.80 µH; PartNumber: 7447786006; Inductance: 6.80 µH; DatasheetVersion: ver 1, Sep-2008; PackageReference: WE-PD-XSH-PB; PackageDescription: SMD Inductor, 2-Leads, Body 5.9 x 6.2 mm; ComponentLink1Description: Manufacturer URL; ComponentLink1URL: http://www.we-online.com; ComponentLink2Description: Datasheet; ComponentLink2URL: http://www.we-online.de/katalog/media/pdf/7447786006.pdf
footprint WE-PD-XSH-PB (SMD Inductor, 2-Leads, Body 5.9x6.2x5.1 mm)
pins: 1, 2

## 7447786008
designator L?
SMD-Shielded Power Inductor WE-PD, L = 8.20 µH; PartNumber: 7447786008; Inductance: 8.20 µH; DatasheetVersion: ver 1, Sep-2008; PackageReference: WE-PD-XSH-PB; PackageDescription: SMD Inductor, 2-Leads, Body 5.9 x 6.2 mm; ComponentLink1Description: Manufacturer URL; ComponentLink1URL: http://www.we-online.com; ComponentLink2Description: Datasheet; ComponentLink2URL: http://www.we-online.de/katalog/media/pdf/7447786008.pdf
footprint WE-PD-XSH-PB (SMD Inductor, 2-Leads, Body 5.9x6.2x5.1 mm)
pins: 1, 2

## 7447786122
designator L?
SMD-Shielded Power Inductor WE-PD, L = 22.0 µH; PartNumber: 7447786122; Inductance: 22.0 µH; DatasheetVersion: ver 1, Sep-2008; PackageReference: WE-PD-XSH-PB; PackageDescription: SMD Inductor, 2-Leads, Body 5.9 x 6.2 mm; ComponentLink1Description: Manufacturer URL; ComponentLink1URL: http://www.we-online.com; ComponentLink2Description: Datasheet; ComponentLink2URL: http://www.we-online.de/katalog/media/pdf/7447786122.pdf
footprint WE-PD-XSH-PB (SMD Inductor, 2-Leads, Body 5.9x6.2x5.1 mm)
pins: 1, 2

## 7447786147
designator L?
SMD-Shielded Power Inductor WE-PD, L = 47.0 µH; PartNumber: 7447786147; Inductance: 47.0 µH; DatasheetVersion: ver 1, Sep-2008; PackageReference: WE-PD-XSH-PB; PackageDescription: SMD Inductor, 2-Leads, Body 5.9 x 6.2 mm; ComponentLink1Description: Manufacturer URL; ComponentLink1URL: http://www.we-online.com; ComponentLink2Description: Datasheet; ComponentLink2URL: http://www.we-online.de/katalog/media/pdf/7447786147.pdf
footprint WE-PD-XSH-PB (SMD Inductor, 2-Leads, Body 5.9x6.2x5.1 mm)
pins: 1, 2

## 7447789001
designator L?
SMD-Shielded Power Inductor WE-PD, L = 1.00 µH; PartNumber: 7447789001; Inductance: 1.00 µH; DatasheetVersion: ver 5, Jan-2006; PackageReference: WE-PD-S-PB; PackageDescription: SMD Inductor, 2-Leads, Body 7.3 x 7.3 mm; ComponentLink1Description: Manufacturer URL; ComponentLink1URL: http://www.we-online.com; ComponentLink2Description: Datasheet; ComponentLink2URL: http://www.we-online.de/katalog/media/pdf/7447789001.pdf
footprint WE-PD-S-PB (SMD Inductor, 2-Leads, Body 7.3x7.3x3.5 mm)
pins: 1, 2

## 7447789002
designator L?
SMD-Shielded Power Inductor WE-PD, L=2.20 µH; PartNumber: 7447789002; Inductance: 2.20 µH; PackageReference: WE-PD-S-PB; PackageDescription: SMD Inductor, 2-Leads, Body 7.3 x 7.3 mm; ComponentLink1Description: Manufacturer URL; ComponentLink1URL: http://www.we-online.com; ComponentLink2Description: Datasheet; ComponentLink2URL: http://www.we-online.de/katalog/media/pdf/7447789002.pdf
footprint WE-PD-S-PB (SMD Inductor, 2-Leads, Body 7.3x7.3x3.5 mm)
pins: 1, 2

## 7447789003
designator L?
SMD-Shielded Power Inductor WE-PD, L=3.30 µH; PartNumber: 7447789003; Inductance: 3.30 µH; PackageReference: WE-PD-S-PB; PackageDescription: SMD Inductor, 2-Leads, Body 7.3 x 7.3 mm; ComponentLink1Description: Manufacturer URL; ComponentLink1URL: http://www.we-online.com; ComponentLink2Description: Datasheet; ComponentLink2URL: http://www.we-online.de/katalog/media/pdf/7447789003.pdf
footprint WE-PD-S-PB (SMD Inductor, 2-Leads, Body 7.3x7.3x3.5 mm)
pins: 1, 2

## 7447789004
designator L?
SMD-Shielded Power Inductor WE-PD, L=4.70 µH; PartNumber: 7447789004; Inductance: 4.70 µH; PackageReference: WE-PD-S-PB; PackageDescription: SMD Inductor, 2-Leads, Body 7.3 x 7.3 mm; ComponentLink1Description: Manufacturer URL; ComponentLink1URL: http://www.we-online.com; ComponentLink2Description: Datasheet; ComponentLink2URL: http://www.we-online.de/katalog/media/pdf/7447789004.pdf
footprint WE-PD-S-PB (SMD Inductor, 2-Leads, Body 7.3x7.3x3.5 mm)
pins: 1, 2

## 7447789006
designator L?
SMD-Shielded Power Inductor WE-PD, L=6.80 µH; PartNumber: 7447789006; Inductance: 6.80 µH; PackageReference: WE-PD-S-PB; PackageDescription: SMD Inductor, 2-Leads, Body 7.3 x 7.3 mm; ComponentLink1Description: Manufacturer URL; ComponentLink1URL: http://www.we-online.com; ComponentLink2Description: Datasheet; ComponentLink2URL: http://www.we-online.de/katalog/media/pdf/7447789006.pdf
footprint WE-PD-S-PB (SMD Inductor, 2-Leads, Body 7.3x7.3x3.5 mm)
pins: 1, 2

## 7447789112
designator L?
SMD-Shielded Power Inductor WE-PD, L = 12.0 µH; PartNumber: 7447789112; Inductance: 12.0 µH; DatasheetVersion: ver 5, Jan-2006; PackageReference: WE-PD-S-PB; PackageDescription: SMD Inductor, 2-Leads, Body 7.3 x 7.3 mm; ComponentLink1Description: Manufacturer URL; ComponentLink1URL: http://www.we-online.com; ComponentLink2Description: Datasheet; ComponentLink2URL: http://www.we-online.de/katalog/media/pdf/7447789112.pdf
footprint WE-PD-S-PB (SMD Inductor, 2-Leads, Body 7.3x7.3x3.5 mm)
pins: 1, 2

## 7447789115
designator L?
SMD-Shielded Power Inductor WE-PD, L=15 µH; PartNumber: 7447789115; Inductance: 15 µH; PackageReference: WE-PD-S-PB; PackageDescription: SMD Inductor, 2-Leads, Body 7.3 x 7.3 mm; ComponentLink1Description: Manufacturer URL; ComponentLink1URL: http://www.we-online.com; ComponentLink2Description: Datasheet; ComponentLink2URL: http://www.we-online.de/katalog/media/pdf/7447789115.pdf
footprint WE-PD-S-PB (SMD Inductor, 2-Leads, Body 7.3x7.3x3.5 mm)
pins: 1, 2

## 7447789118
designator L?
SMD-Shielded Power Inductor WE-PD, L=18 µH; PartNumber: 7447789118; Inductance: 18 µH; PackageReference: WE-PD-S-PB; PackageDescription: SMD Inductor, 2-Leads, Body 7.3 x 7.3 mm; ComponentLink1Description: Manufacturer URL; ComponentLink1URL: http://www.we-online.com; ComponentLink2Description: Datasheet; ComponentLink2URL: http://www.we-online.de/katalog/media/pdf/7447789118.pdf
footprint WE-PD-S-PB (SMD Inductor, 2-Leads, Body 7.3x7.3x3.5 mm)
pins: 1, 2

## 7447789122
designator L?
SMD-Shielded Power Inductor WE-PD, L = 22.0 µH; PartNumber: 7447789122; Inductance: 22.0 µH; DatasheetVersion: ver 5, Jan-2006; PackageReference: WE-PD-S-PB; PackageDescription: SMD Inductor, 2-Leads, Body 7.3 x 7.3 mm; ComponentLink1Description: Manufacturer URL; ComponentLink1URL: http://www.we-online.com; ComponentLink2Description: Datasheet; ComponentLink2URL: http://www.we-online.de/katalog/media/pdf/7447789122.pdf
footprint WE-PD-S-PB (SMD Inductor, 2-Leads, Body 7.3x7.3x3.5 mm)
pins: 1, 2

## 7447789127
designator L?
SMD-Shielded Power Inductor WE-PD, L=27 µH; PartNumber: 7447789127; Inductance: 27 µH; PackageReference: WE-PD-S-PB; PackageDescription: SMD Inductor, 2-Leads, Body 7.3 x 7.3 mm; ComponentLink1Description: Manufacturer URL; ComponentLink1URL: http://www.we-online.com; ComponentLink2Description: Datasheet; ComponentLink2URL: http://www.we-online.de/katalog/media/pdf/7447789127.pdf
footprint WE-PD-S-PB (SMD Inductor, 2-Leads, Body 7.3x7.3x3.5 mm)
pins: 1, 2

## 7447789133
designator L?
SMD-Shielded Power Inductor WE-PD, L = 33.0 µH; PartNumber: 7447789133; Inductance: 33.0 µH; DatasheetVersion: ver 5, Jan-2006; PackageReference: WE-PD-S-PB; PackageDescription: SMD Inductor, 2-Leads, Body 7.3 x 7.3 mm; ComponentLink1Description: Manufacturer URL; ComponentLink1URL: http://www.we-online.com; ComponentLink2Description: Datasheet; ComponentLink2URL: http://www.we-online.de/katalog/media/pdf/7447789133.pdf
footprint WE-PD-S-PB (SMD Inductor, 2-Leads, Body 7.3x7.3x3.5 mm)
pins: 1, 2

## 7447789139
designator L?
SMD-Shielded Power Inductor WE-PD, L=39 µH; PartNumber: 7447789139; Inductance: 39 µH; PackageReference: WE-PD-S-PB; PackageDescription: SMD Inductor, 2-Leads, Body 7.3 x 7.3 mm; ComponentLink1Description: Manufacturer URL; ComponentLink1URL: http://www.we-online.com; ComponentLink2Description: Datasheet; ComponentLink2URL: http://www.we-online.de/katalog/media/pdf/7447789139.pdf
footprint WE-PD-S-PB (SMD Inductor, 2-Leads, Body 7.3x7.3x3.5 mm)
pins: 1, 2

## 7447789147
designator L?
SMD-Shielded Power Inductor WE-PD, L = 47.0 µH; PartNumber: 7447789147; Inductance: 47.0 µH; DatasheetVersion: ver 5, Jan-2006; PackageReference: WE-PD-S-PB; PackageDescription: SMD Inductor, 2-Leads, Body 7.3 x 7.3 mm; ComponentLink1Description: Manufacturer URL; ComponentLink1URL: http://www.we-online.com; ComponentLink2Description: Datasheet; ComponentLink2URL: http://www.we-online.de/katalog/media/pdf/7447789147.pdf
footprint WE-PD-S-PB (SMD Inductor, 2-Leads, Body 7.3x7.3x3.5 mm)
pins: 1, 2

## 7447789156
designator L?
SMD-Shielded Power Inductor WE-PD, L = 56.0 µH; PartNumber: 7447789156; Inductance: 56.0 µH; DatasheetVersion: ver 5, Jan-2006; PackageReference: WE-PD-S-PB; PackageDescription: SMD Inductor, 2-Leads, Body 7.3 x 7.3 mm; ComponentLink1Description: Manufacturer URL; ComponentLink1URL: http://www.we-online.com; ComponentLink2Description: Datasheet; ComponentLink2URL: http://www.we-online.de/katalog/media/pdf/7447789156.pdf
footprint WE-PD-S-PB (SMD Inductor, 2-Leads, Body 7.3x7.3x3.5 mm)
pins: 1, 2

## 7447789168
designator L?
SMD-Shielded Power Inductor WE-PD, L = 68.0 µH; PartNumber: 7447789168; Inductance: 68.0 µH; DatasheetVersion: ver 5, Jan-2006; PackageReference: WE-PD-S-PB; PackageDescription: SMD Inductor, 2-Leads, Body 7.3 x 7.3 mm; ComponentLink1Description: Manufacturer URL; ComponentLink1URL: http://www.we-online.com; ComponentLink2Description: Datasheet; ComponentLink2URL: http://www.we-online.de/katalog/media/pdf/7447789168.pdf
footprint WE-PD-S-PB (SMD Inductor, 2-Leads, Body 7.3x7.3x3.5 mm)
pins: 1, 2

## 7447789182
designator L?
SMD-Shielded Power Inductor WE-PD, L = 82.0 µH; PartNumber: 7447789182; Inductance: 82.0 µH; DatasheetVersion: ver 5, Jan-2006; PackageReference: WE-PD-S-PB; PackageDescription: SMD Inductor, 2-Leads, Body 7.3 x 7.3 mm; ComponentLink1Description: Manufacturer URL; ComponentLink1URL: http://www.we-online.com; ComponentLink2Description: Datasheet; ComponentLink2URL: http://www.we-online.de/katalog/media/pdf/7447789182.pdf
footprint WE-PD-S-PB (SMD Inductor, 2-Leads, Body 7.3x7.3x3.5 mm)
pins: 1, 2

## 7447789212
designator L?
SMD-Shielded Power Inductor WE-PD, L = 120 µH; PartNumber: 7447789212; Inductance: 120 µH; DatasheetVersion: ver 5, Jan-2006; PackageReference: WE-PD-S-PB; PackageDescription: SMD Inductor, 2-Leads, Body 7.3 x 7.3 mm; ComponentLink1Description: Manufacturer URL; ComponentLink1URL: http://www.we-online.com; ComponentLink2Description: Datasheet; ComponentLink2URL: http://www.we-online.de/katalog/media/pdf/7447789212.pdf
footprint WE-PD-S-PB (SMD Inductor, 2-Leads, Body 7.3x7.3x3.5 mm)
pins: 1, 2

## 7447789215
designator L?
SMD-Shielded Power Inductor WE-PD, L=150 µH; PartNumber: 7447789215; Inductance: 150 µH; PackageReference: WE-PD-S-PB; PackageDescription: SMD Inductor, 2-Leads, Body 7.3 x 7.3 mm; ComponentLink1Description: Manufacturer URL; ComponentLink1URL: http://www.we-online.com; ComponentLink2Description: Datasheet; ComponentLink2URL: http://www.we-online.de/katalog/media/pdf/7447789215.pdf
footprint WE-PD-S-PB (SMD Inductor, 2-Leads, Body 7.3x7.3x3.5 mm)
pins: 1, 2

## 7447789218
designator L?
SMD-Shielded Power Inductor WE-PD, L=180 µH; PartNumber: 7447789218; Inductance: 180 µH; PackageReference: WE-PD-S-PB; PackageDescription: SMD Inductor, 2-Leads, Body 7.3 x 7.3 mm; ComponentLink1Description: Manufacturer URL; ComponentLink1URL: http://www.we-online.com; ComponentLink2Description: Datasheet; ComponentLink2URL: http://www.we-online.de/katalog/media/pdf/7447789218.pdf
footprint WE-PD-S-PB (SMD Inductor, 2-Leads, Body 7.3x7.3x3.5 mm)
pins: 1, 2

## 7447789222
designator L?
SMD-Shielded Power Inductor WE-PD, L = 220 µH; PartNumber: 7447789222; Inductance: 220 µH; DatasheetVersion: ver 5, Jan-2006; PackageReference: WE-PD-S-PB; PackageDescription: SMD Inductor, 2-Leads, Body 7.3 x 7.3 mm; ComponentLink1Description: Manufacturer URL; ComponentLink1URL: http://www.we-online.com; ComponentLink2Description: Datasheet; ComponentLink2URL: http://www.we-online.de/katalog/media/pdf/7447789222.pdf
footprint WE-PD-S-PB (SMD Inductor, 2-Leads, Body 7.3x7.3x3.5 mm)
pins: 1, 2

## 7447789233
designator L?
SMD-Shielded Power Inductor WE-PD, L = 330 µH; PartNumber: 7447789233; Inductance: 330 µH; DatasheetVersion: ver 5, Jan-2006; PackageReference: WE-PD-S-PB; PackageDescription: SMD Inductor, 2-Leads, Body 7.3 x 7.3 mm; ComponentLink1Description: Manufacturer URL; ComponentLink1URL: http://www.we-online.com; ComponentLink2Description: Datasheet; ComponentLink2URL: http://www.we-online.de/katalog/media/pdf/7447789233.pdf
footprint WE-PD-S-PB (SMD Inductor, 2-Leads, Body 7.3x7.3x3.5 mm)
pins: 1, 2

## 7447789239
designator L?
SMD-Shielded Power Inductor WE-PD, L=390 µH; PartNumber: 7447789239; Inductance: 390 µH; PackageReference: WE-PD-S-PB; PackageDescription: SMD Inductor, 2-Leads, Body 7.3 x 7.3 mm; ComponentLink1Description: Manufacturer URL; ComponentLink1URL: http://www.we-online.com; ComponentLink2Description: Datasheet; ComponentLink2URL: http://www.we-online.de/katalog/media/pdf/7447789239.pdf
footprint WE-PD-S-PB (SMD Inductor, 2-Leads, Body 7.3x7.3x3.5 mm)
pins: 1, 2

## 7447789270
designator L?
SMD-Shielded Power Inductor WE-PD, L=270 µH; PartNumber: 7447789270; Inductance: 270 µH; PackageReference: WE-PD-S-PB; PackageDescription: SMD Inductor, 2-Leads, Body 7.3 x 7.3 mm; ComponentLink1Description: Manufacturer URL; ComponentLink1URL: http://www.we-online.com; ComponentLink2Description: Datasheet; ComponentLink2URL: http://www.we-online.de/katalog/media/pdf/7447789270.pdf
footprint WE-PD-S-PB (SMD Inductor, 2-Leads, Body 7.3x7.3x3.5 mm)
pins: 1, 2

## 74477790015
designator L?
SMD-Shielded Power Inductor WE-PD, L=1.50 µH; PartNumber: 74477790015; Inductance: 1.50 µH; PackageReference: WE-PD-M-PB; PackageDescription: SMD Inductor, 2-Leads, Body 7.3 x 7.3 mm; ComponentLink1Description: Manufacturer URL; ComponentLink1URL: http://www.we-online.com; ComponentLink2Description: Datasheet; ComponentLink2URL: http://www.we-online.de/katalog/media/pdf/74477790015.pdf
footprint WE-PD-M-PB (SMD Inductor, 2-Leads, Body 7.3x7.3x4.5 mm)
pins: 1, 2